# Altium footprint library DRV8833.PcbLib: 1 footprints
Each footprint in its own frame and in the unit in brackets; x right, y up, seen from the top. Pads: shape width x height; smd on the part's side, far side on the other; paste and mask are expansions set on the pad; w line width, h text height; cw(c..) or ccw(c..) is an arc to the next point about the centre after c.
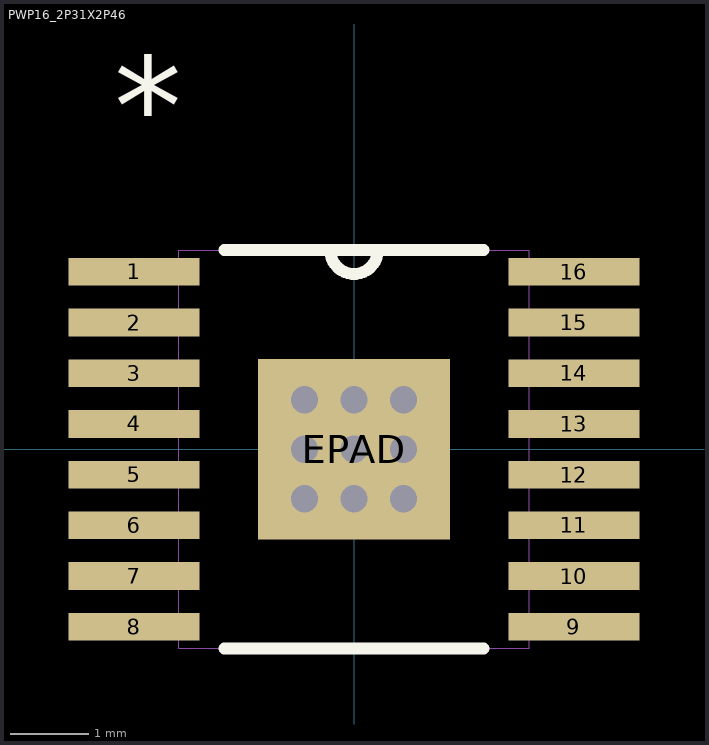
[diagram p0: the footprint, top view; thin cyan lines are the x and y axes]

## PWP16_2P31X2P46 [mil]
pads (17):
  rect 66x14 smd: 1(-111,89.57) 2(-111,63.98) 3(-111,38.39) 4(-111,12.8) 5(-111,-12.8) 6(-111,-38.39) 7(-111,-63.98) 8(-111,-89.57) 9(111,-89.57) 10(111,-63.98) 11(111,-38.39) 12(111,-12.8) 13(111,12.8) 14(111,38.39) 15(111,63.98) 16(111,89.57)
  rect 96.85x90.94 smd paste-47.93 mask-48: EPAD(0,0)
via 0,0 diameter 19.68 hole 13.78
via 0,-25 diameter 19.68 hole 13.78
via 0,25 diameter 19.68 hole 13.78
via 25,0 diameter 19.68 hole 13.78
via -25,0 diameter 19.68 hole 13.78
via -25,-25 diameter 19.68 hole 13.78
via 25,-25 diameter 19.68 hole 13.78
via 25,25 diameter 19.68 hole 13.78
via -25,25 diameter 19.68 hole 13.78
Top Overlay:
  lines w6: -65.5,-100.5 65.5,-100.5 ; -65.5,100.5 65.5,100.5 ; -12,100.5 ccw(c0,100.5) 12,100.5
  text "*" at -121,148.57 h50
Top Paste:
  region: -40.5,-19.44 -45.48,-19.44 -45.48,-42.52 -34.94,-42.52 -34.94,-25
  region: -9.5,-19.44 -21.5,-19.44 -27.06,-25 -27.06,-42.52 -3.94,-42.52 -3.94,-25
  region: 21.5,-19.44 9.5,-19.44 3.94,-25 3.94,-42.52 27.06,-42.52 27.06,-25
  region: 45.48,42.52 34.94,42.52 34.94,25 40.5,19.44 45.48,19.44
  region: 45.48,11.56 40.5,11.56 34.94,6 34.94,-6 40.5,-11.56 45.48,-11.56
  region: 45.48,-19.44 40.5,-19.44 34.94,-25 34.94,-42.52 45.48,-42.52
Top Solder:
  region: -50.93,23.37 -50.93,47.97 50.93,47.97 50.93,23.37
  region: -50.93,-7.63 -50.93,7.63 50.93,7.63 50.93,-7.63
  region: -50.93,-47.97 -50.93,-23.37 50.93,-23.37 50.93,-47.97
  region: -50.93,-47.97 -50.93,47.97 -38.87,47.97 -38.87,-47.97
  region: -7.87,-47.97 -7.87,47.97 -23.13,47.97 -23.13,-47.97
  region: 23.13,-47.97 23.13,47.97 7.87,47.97 7.87,-47.97
  region: 38.87,-47.97 38.87,47.97 50.93,47.97 50.93,-47.97
Mechanical 1:
  lines w0: -12,100.5 ccw(c0,100.5) 12,100.5 ; -130,-95.57 -130,-83.57 -88.5,-83.57 -88.5,-95.57 -130,-95.57 ; -130,-69.98 -130,-57.98 -88.5,-57.98 -88.5,-69.98 -130,-69.98 ; -130,-44.39 -130,-32.39 -88.5,-32.39 -88.5,-44.39 -130,-44.39 ; -130,-18.8 -130,-6.8 -88.5,-6.8 -88.5,-18.8 -130,-18.8 ; -130,6.8 -130,18.8 -88.5,18.8 -88.5,6.8 -130,6.8 ; -130,32.39 -130,44.39 -88.5,44.39 -88.5,32.39 -130,32.39 ; -130,57.98 -130,69.98 -88.5,69.98 -88.5,57.98 -130,57.98 ; -130,83.57 -130,95.57 -88.5,95.57 -88.5,83.57 -130,83.57 ; -88.5,-100.5 88.5,-100.5 88.5,100.5 -88.5,100.5 -88.5,-100.5 ; 88.5,-95.57 88.5,-83.57 130,-83.57 130,-95.57 88.5,-95.57 ; 88.5,-69.98 88.5,-57.98 130,-57.98 130,-69.98 88.5,-69.98 ; 88.5,-44.39 88.5,-32.39 130,-32.39 130,-44.39 88.5,-44.39 ; 88.5,-18.8 88.5,-6.8 130,-6.8 130,-18.8 88.5,-18.8 ; 88.5,6.8 88.5,18.8 130,18.8 130,6.8 88.5,6.8 ; 88.5,32.39 88.5,44.39 130,44.39 130,32.39 88.5,32.39 ; 88.5,57.98 88.5,69.98 130,69.98 130,57.98 88.5,57.98 ; 88.5,83.57 88.5,95.57 130,95.57 130,83.57 88.5,83.57
  text "*" at -121,148.57 h50